# EAGLE library part TCS3200 (library TCS3200)
TCS3200 is a color sensor with array of photodiodes from 470nm to 700nm range
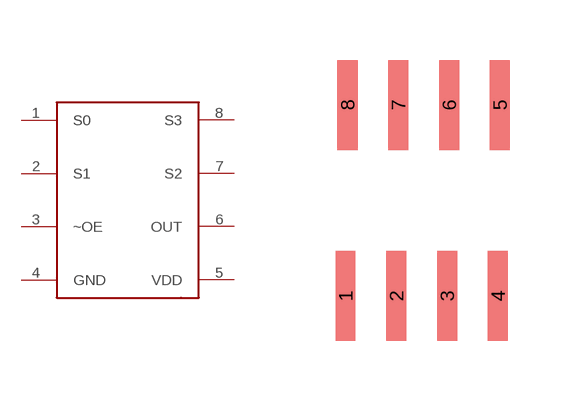
[diagram p0: symbol with the pads of TCS3200; footprint TCS3200]

Designator prefix -

## TCS3200  [TCS3200]
1  S0
2  S1
3  ~OE
4  GND
5  VDD
6  OUT
7  S2
8  S3

## Footprint TCS3200 (pad centres in mm)
smd 0.5 x 2.25: 1 -1.93,-2.33; 2 -0.66,-2.33; 3 0.61,-2.33; 4 1.88,-2.33; 5 1.93,2.45; 6 0.66,2.45; 7 -0.61,2.45; 8 -1.88,2.45